# EAGLE library part BREAKOUT_PINS (library 00_PF_Nordic)
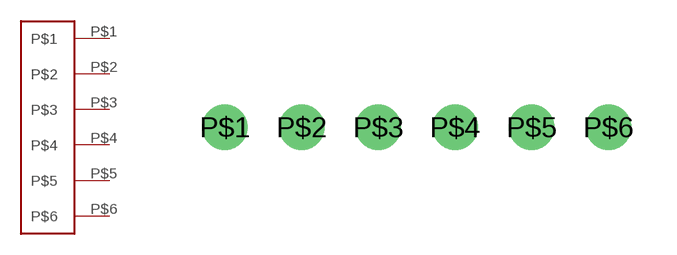
[diagram p4: symbol with the pads of BREAKOUT_PINS; footprint BREAKOUT_PINS]

Designator prefix -

## BREAKOUT_PINS  [BREAKOUT_PINS]
P$1  P$1
P$2  P$2
P$3  P$3
P$4  P$4
P$5  P$5
P$6  P$6

## Footprint BREAKOUT_PINS (pad centres in mm)
drill 1: P$1 -6.35,0; P$2 -3.81,0; P$3 -1.27,0; P$4 1.27,0; P$5 3.81,0; P$6 6.35,0